# EAGLE library part 10PIN (library Connector-FFC)
FFC or FPC connector
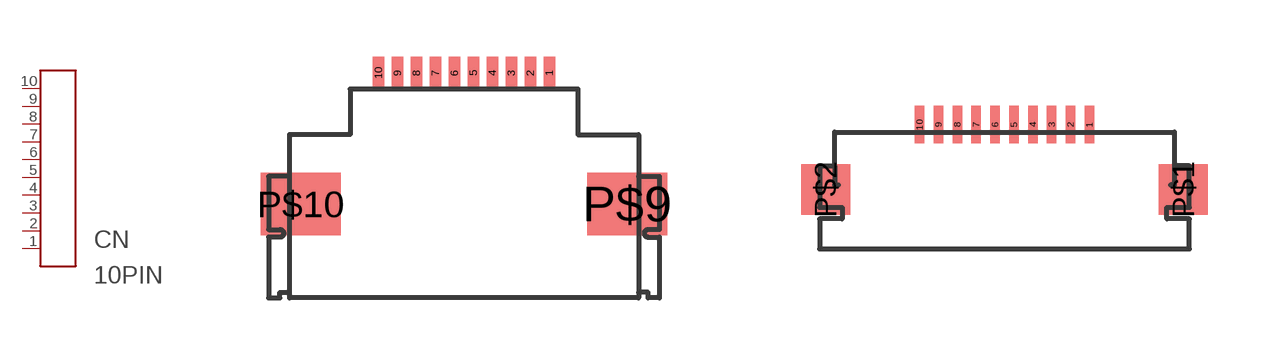
[diagram p1: symbol with the pads of FA5-10; footprints FA5-10, XF2L-1025-1]

Designator prefix CN

## 10PIN  [FA5-10]
1  P$10
2  P$9
3  P$8
4  P$7
5  P$6
6  P$5
7  P$4
8  P$3
9  P$2
10  P$1

## 10PINXF2L  [XF2L-1025-1]
1  P$1
2  P$2
3  P$3
4  P$4
5  P$5
6  P$6
7  P$7
8  P$8
9  P$9
10  P$10

## 10PINFH19C  [FH19C-10S-0.5SH(05)]
Pads as for XF2L-1025-1

## Footprint FA5-10 (pad centres in mm)
FA5 10 pole , 0.5mm pitch (JAE) infomation: http://jae-connector.com/jp/index.cfm
smd 0.3 x 0.85: 1 2.25,0.425; 2 1.75,0.425; 3 1.25,0.425; 4 0.75,0.425; 5 0.25,0.425; 6 -0.25,0.425; 7 -0.75,0.425; 8 -1.25,0.425; 9 -1.75,0.425; 10 -2.25,0.425
smd 2.1 x 1.65: P$9 4.3,-3.025; P$10 -4.3,-3.025

## Footprint XF2L-1025-1 (pad centres in mm)
XF2L 0.5mm pitch 10 pins, ZIF Single-LockingConnector (omrom) store: Digi-Key http://digikey.com/jp/digihome.html
smd 0.25 x 1: 1 2.25,0.5; 2 1.75,0.5; 3 1.25,0.5; 4 0.75,0.5; 5 0.25,0.5; 6 -0.25,0.5; 7 -0.75,0.5; 8 -1.25,0.5; 9 -1.75,0.5; 10 -2.25,0.5
smd 1.3 x 1.34: P$1 4.74,-1.22; P$2 -4.74,-1.22

## Footprint FH19C-10S-0.5SH(05) (pad centres in mm)
FH19C-10S , 0.5mm pitch 10 poles (Hirose) FH19C Series Store:
smd 0.3 x 0.8: 1 -2.25,-0.4; 2 -1.75,-0.4; 3 -1.25,-0.4; 4 -0.75,-0.4; 5 -0.25,-0.4; 6 0.25,-0.4; 7 0.75,-0.4; 8 1.25,-0.4; 9 1.75,-0.4; 10 2.25,-0.4
smd 0.4 x 0.8: P$1 3.25,-2.9; P$2 -3.35,-2.9